# Altium footprint library SMD_components.PcbLib: 42 footprints (part 2 of 3)
Each footprint in its own frame and in the unit in brackets; x right, y up, seen from the top. Pads: shape width x height; smd on the part's side, far side on the other; paste and mask are expansions set on the pad; w line width, h text height; cw(c..) or ccw(c..) is an arc to the next point about the centre after c.
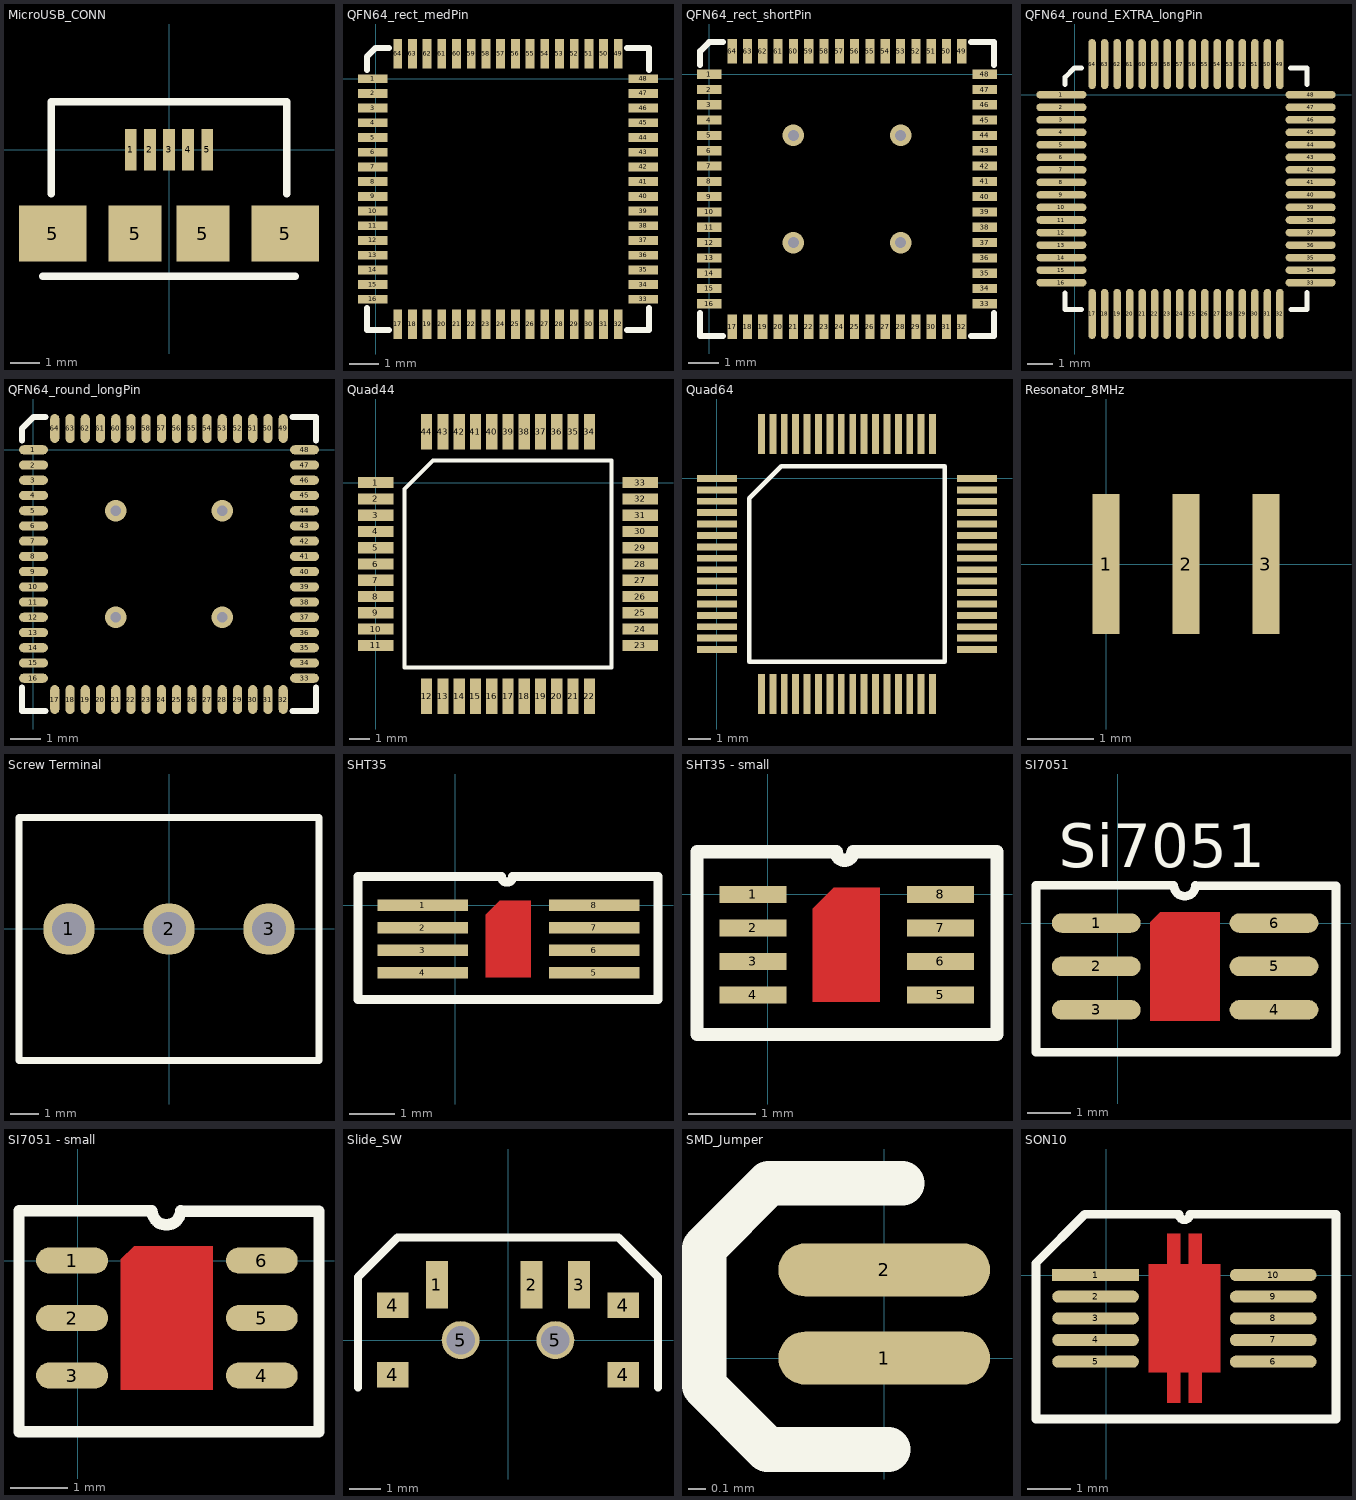
[diagram p1: the footprints below, top view; thin cyan lines are the x and y axes]

## MicroUSB_CONN [mm]
pads (9):
  rect 0.4x1.4 smd: 1(-1.3,0) 2(-0.65,0) 3(0,0) 4(0.65,0) 5(1.3,0)
  rect 2.3x1.9 smd: 5(-3.95,-2.85) 5(3.95,-2.85)
  rect 1.8x1.9 smd: 5(-1.15,-2.85) 5(1.15,-2.85)
Top Overlay:
  lines w0.254: -4.3,-4.3 4.3,-4.3 ; -4,-1.5 -4,1.63 4,1.63 4,-1.5

## QFN64_rect_medPin [mm]
pads (64):
  rect 1x0.3 smd: 1(-0.1,0) 2(-0.1,-0.5) 3(-0.1,-1) 4(-0.1,-1.5) 5(-0.1,-2) 6(-0.1,-2.5) 7(-0.1,-3) 8(-0.1,-3.5) 9(-0.1,-4) 10(-0.1,-4.5) 11(-0.1,-5) 12(-0.1,-5.5) 13(-0.1,-6) 14(-0.1,-6.5) 15(-0.1,-7) 16(-0.1,-7.5) 33(9.1,-7.5) 34(9.1,-7) 35(9.1,-6.5) 36(9.1,-6) 37(9.1,-5.5) 38(9.1,-5) 39(9.1,-4.5) 40(9.1,-4) 41(9.1,-3.5) 42(9.1,-3) 43(9.1,-2.5) 44(9.1,-2) 45(9.1,-1.5) 46(9.1,-1) 47(9.1,-0.5) 48(9.1,0)
  rect 0.3x1 smd: 17(0.75,-8.35) 18(1.25,-8.35) 19(1.75,-8.35) 20(2.25,-8.35) 21(2.75,-8.35) 22(3.25,-8.35) 23(3.75,-8.35) 24(4.25,-8.35) 25(4.75,-8.35) 26(5.25,-8.35) 27(5.75,-8.35) 28(6.25,-8.35) 29(6.75,-8.35) 30(7.25,-8.35) 31(7.75,-8.35) 32(8.25,-8.35) 49(8.25,0.85) 50(7.75,0.85) 51(7.25,0.85) 52(6.75,0.85) 53(6.25,0.85) 54(5.75,0.85) 55(5.25,0.85) 56(4.75,0.85) 57(4.25,0.85) 58(3.75,0.85) 59(3.25,0.85) 60(2.75,0.85) 61(2.25,0.85) 62(1.75,0.85) 63(1.25,0.85) 64(0.75,0.85)
Top Overlay:
  lines w0.2: -0.3,-7.8 -0.3,-8.55 0.45,-8.55 ; -0.3,0.3 -0.3,0.75 0,1.05 0.45,1.05 ; 8.55,-8.55 9.3,-8.55 9.3,-7.8 ; 8.55,1.05 9.3,1.05 9.3,0.3
Top Paste:
  rectangle: 1.25,-7.02 2.5,-5.745
  rectangle: 3.01,-7.02 4.26,-5.745
  rectangle: 4.75,-7.02 6,-5.745
  rectangle: 6.51,-7.02 7.76,-5.745
  rectangle: 6.51,-5.27 7.76,-3.995
  rectangle: 4.76,-5.27 6.01,-3.995
  rectangle: 3,-5.27 4.25,-3.995
  rectangle: 1.26,-5.27 2.51,-3.995
  rectangle: 6.51,-3.52 7.76,-2.245
  rectangle: 4.76,-3.52 6.01,-2.245
  rectangle: 3.01,-3.52 4.26,-2.245
  rectangle: 1.25,-3.52 2.5,-2.245
  rectangle: 6.51,-1.77 7.76,-0.495
  rectangle: 4.76,-1.77 6.01,-0.495
  rectangle: 3,-1.77 4.25,-0.495
  rectangle: 1.25,-1.765 2.5,-0.49
Top Solder:
  rectangle: 6.38,-7.13 7.88,-5.63
  rectangle: 6.38,-5.38 7.88,-3.88
  rectangle: 4.63,-7.13 6.13,-5.63
  rectangle: 4.63,-5.38 6.13,-3.88
  rectangle: 2.88,-5.38 4.38,-3.88
  rectangle: 2.88,-7.13 4.38,-5.63
  rectangle: 1.13,-7.13 2.63,-5.63
  rectangle: 1.13,-5.38 2.63,-3.88
  rectangle: 1.13,-3.63 2.63,-2.13
  rectangle: 2.88,-3.63 4.38,-2.13
  rectangle: 4.63,-3.63 6.13,-2.13
  rectangle: 6.38,-3.63 7.88,-2.13
  rectangle: 6.38,-1.88 7.88,-0.38
  rectangle: 4.63,-1.88 6.13,-0.38
  rectangle: 2.88,-1.88 4.38,-0.38
  rectangle: 1.13,-1.88 2.63,-0.38
3D body: height 2, standoff 0, extent -0.349,-8.585 9.352,1.065

## QFN64_rect_shortPin [mm]
pads (64):
  rect 0.8x0.3 smd: 1(0,0) 2(0,-0.5) 3(0,-1) 4(0,-1.5) 5(0,-2) 6(0,-2.5) 7(0,-3) 8(0,-3.5) 9(0,-4) 10(0,-4.5) 11(0,-5) 12(0,-5.5) 13(0,-6) 14(0,-6.5) 15(0,-7) 16(0,-7.5) 33(9,-7.5) 34(9,-7) 35(9,-6.5) 36(9,-6) 37(9,-5.5) 38(9,-5) 39(9,-4.5) 40(9,-4) 41(9,-3.5) 42(9,-3) 43(9,-2.5) 44(9,-2) 45(9,-1.5) 46(9,-1) 47(9,-0.5) 48(9,0)
  rect 0.3x0.8 smd: 17(0.75,-8.25) 18(1.25,-8.25) 19(1.75,-8.25) 20(2.25,-8.25) 21(2.75,-8.25) 22(3.25,-8.25) 23(3.75,-8.25) 24(4.25,-8.25) 25(4.75,-8.25) 26(5.25,-8.25) 27(5.75,-8.25) 28(6.25,-8.25) 29(6.75,-8.25) 30(7.25,-8.25) 31(7.75,-8.25) 32(8.25,-8.25) 49(8.25,0.75) 50(7.75,0.75) 51(7.25,0.75) 52(6.75,0.75) 53(6.25,0.75) 54(5.75,0.75) 55(5.25,0.75) 56(4.75,0.75) 57(4.25,0.75) 58(3.75,0.75) 59(3.25,0.75) 60(2.75,0.75) 61(2.25,0.75) 62(1.75,0.75) 63(1.25,0.75) 64(0.75,0.75)
via 2.75,-5.5 diameter 0.7 hole 0.35
via 6.25,-5.5 diameter 0.7 hole 0.35
via 6.25,-2 diameter 0.7 hole 0.35
via 2.75,-2 diameter 0.7 hole 0.35
Top Overlay:
  lines w0.2: -0.3,-7.8 -0.3,-8.55 0.45,-8.55 ; -0.3,0.3 -0.3,0.75 0,1.05 0.45,1.05 ; 8.55,-8.55 9.3,-8.55 9.3,-7.8 ; 8.55,1.05 9.3,1.05 9.3,0.3
Top Paste:
  rectangle: 1.25,-1.765 2.5,-0.49
  rectangle: 3,-1.77 4.25,-0.495
  rectangle: 4.76,-1.77 6.01,-0.495
  rectangle: 6.51,-1.77 7.76,-0.495
  rectangle: 1.25,-3.52 2.5,-2.245
  rectangle: 3.01,-3.52 4.26,-2.245
  rectangle: 4.76,-3.52 6.01,-2.245
  rectangle: 6.51,-3.52 7.76,-2.245
  rectangle: 1.26,-5.27 2.51,-3.995
  rectangle: 3,-5.27 4.25,-3.995
  rectangle: 4.76,-5.27 6.01,-3.995
  rectangle: 6.51,-5.27 7.76,-3.995
  rectangle: 6.51,-7.02 7.76,-5.745
  rectangle: 4.75,-7.02 6,-5.745
  rectangle: 3.01,-7.02 4.26,-5.745
  rectangle: 1.25,-7.02 2.5,-5.745
Top Solder:
  rectangle: 1.13,-1.88 2.63,-0.38
  rectangle: 2.88,-1.88 4.38,-0.38
  rectangle: 4.63,-1.88 6.13,-0.38
  rectangle: 6.38,-1.88 7.88,-0.38
  rectangle: 6.38,-3.63 7.88,-2.13
  rectangle: 4.63,-3.63 6.13,-2.13
  rectangle: 2.88,-3.63 4.38,-2.13
  rectangle: 1.13,-3.63 2.63,-2.13
  rectangle: 1.13,-5.38 2.63,-3.88
  rectangle: 1.13,-7.13 2.63,-5.63
  rectangle: 2.88,-7.13 4.38,-5.63
  rectangle: 2.88,-5.38 4.38,-3.88
  rectangle: 4.63,-5.38 6.13,-3.88
  rectangle: 4.63,-7.13 6.13,-5.63
  rectangle: 6.38,-5.38 7.88,-3.88
  rectangle: 6.38,-7.13 7.88,-5.63
3D body: height 2, standoff 0, extent -0.384,-8.581 9.317,1.069

## QFN64_round_EXTRA_longPin [mm]
pads (64):
  oval 2x0.3 smd: 1(-0.525,0) 2(-0.525,-0.5) 3(-0.525,-1) 4(-0.525,-1.5) 5(-0.525,-2) 6(-0.525,-2.5) 7(-0.525,-3) 8(-0.525,-3.5) 9(-0.525,-4) 10(-0.525,-4.5) 11(-0.525,-5) 12(-0.525,-5.5) 13(-0.525,-6) 14(-0.525,-6.5) 15(-0.525,-7) 16(-0.525,-7.5) 33(9.425,-7.5) 34(9.425,-7) 35(9.425,-6.5) 36(9.425,-6) 37(9.425,-5.5) 38(9.425,-5) 39(9.425,-4.5) 40(9.425,-4) 41(9.425,-3.5) 42(9.425,-3) 43(9.425,-2.5) 44(9.425,-2) 45(9.425,-1.5) 46(9.425,-1) 47(9.425,-0.5) 48(9.425,0)
  oval 0.3x2 smd: 17(0.7,-8.75) 18(1.2,-8.75) 19(1.7,-8.75) 20(2.2,-8.75) 21(2.7,-8.75) 22(3.2,-8.75) 23(3.7,-8.75) 24(4.2,-8.75) 25(4.7,-8.75) 26(5.2,-8.75) 27(5.7,-8.75) 28(6.2,-8.75) 29(6.7,-8.75) 30(7.2,-8.75) 31(7.7,-8.75) 32(8.2,-8.75) 49(8.2,1.225) 50(7.7,1.225) 51(7.2,1.225) 52(6.7,1.225) 53(6.2,1.225) 54(5.7,1.225) 55(5.2,1.225) 56(4.7,1.225) 57(4.2,1.225) 58(3.7,1.225) 59(3.2,1.225) 60(2.7,1.225) 61(2.2,1.225) 62(1.7,1.225) 63(1.2,1.225) 64(0.7,1.225)
Top Overlay:
  lines w0.2: -0.375,-7.906 -0.375,-8.575 0.284,-8.575 ; -0.375,0.403 -0.375,0.7 0,1.075 0.288,1.075 ; 8.627,1.075 9.275,1.075 9.275,0.407 ; 8.638,-8.575 9.275,-8.575 9.275,-7.885
Top Paste:
  rectangle: 1.2,-1.76 2.45,-0.485
  rectangle: 2.95,-1.765 4.2,-0.49
  rectangle: 4.71,-1.765 5.96,-0.49
  rectangle: 6.46,-1.765 7.71,-0.49
  rectangle: 1.2,-3.515 2.45,-2.24
  rectangle: 2.96,-3.515 4.21,-2.24
  rectangle: 4.71,-3.515 5.96,-2.24
  rectangle: 6.46,-3.515 7.71,-2.24
  rectangle: 1.21,-5.265 2.46,-3.99
  rectangle: 2.95,-5.265 4.2,-3.99
  rectangle: 4.71,-5.265 5.96,-3.99
  rectangle: 6.46,-5.265 7.71,-3.99
  rectangle: 6.46,-7.015 7.71,-5.74
  rectangle: 4.7,-7.015 5.95,-5.74
  rectangle: 2.96,-7.015 4.21,-5.74
  rectangle: 1.2,-7.015 2.45,-5.74
Top Solder:
  rectangle: 1.08,-1.88 2.58,-0.38
  rectangle: 2.83,-1.88 4.33,-0.38
  rectangle: 4.58,-1.88 6.08,-0.38
  rectangle: 6.33,-1.88 7.83,-0.38
  rectangle: 6.33,-3.63 7.83,-2.13
  rectangle: 4.58,-3.63 6.08,-2.13
  rectangle: 2.83,-3.63 4.33,-2.13
  rectangle: 1.08,-3.63 2.58,-2.13
  rectangle: 1.08,-5.38 2.58,-3.88
  rectangle: 2.83,-5.38 4.33,-3.88
  rectangle: 4.58,-5.38 6.08,-3.88
  rectangle: 6.33,-5.38 7.83,-3.88
  rectangle: 6.33,-7.13 7.83,-5.63
  rectangle: 4.58,-7.13 6.08,-5.63
  rectangle: 2.83,-7.13 4.33,-5.63
  rectangle: 1.08,-7.13 2.58,-5.63
3D body: height 2, standoff 0, extent -0.426,-8.575 9.275,1.075

## QFN64_round_longPin [mm]
pads (64):
  oval 0.95x0.3 smd: 1(0,0) 2(0,-0.5) 3(0,-1) 4(0,-1.5) 5(0,-2) 6(0,-2.5) 7(0,-3) 8(0,-3.5) 9(0,-4) 10(0,-4.5) 11(0,-5) 12(0,-5.5) 13(0,-6) 14(0,-6.5) 15(0,-7) 16(0,-7.5) 33(8.9,-7.5) 34(8.9,-7) 35(8.9,-6.5) 36(8.9,-6) 37(8.9,-5.5) 38(8.9,-5) 39(8.9,-4.5) 40(8.9,-4) 41(8.9,-3.5) 42(8.9,-3) 43(8.9,-2.5) 44(8.9,-2) 45(8.9,-1.5) 46(8.9,-1) 47(8.9,-0.5) 48(8.9,0)
  oval 0.3x0.95 smd: 17(0.7,-8.2) 18(1.2,-8.2) 19(1.7,-8.2) 20(2.2,-8.2) 21(2.7,-8.2) 22(3.2,-8.2) 23(3.7,-8.2) 24(4.2,-8.2) 25(4.7,-8.2) 26(5.2,-8.2) 27(5.7,-8.2) 28(6.2,-8.2) 29(6.7,-8.2) 30(7.2,-8.2) 31(7.7,-8.2) 32(8.2,-8.2) 49(8.2,0.7) 50(7.7,0.7) 51(7.2,0.7) 52(6.7,0.7) 53(6.2,0.7) 54(5.7,0.7) 55(5.2,0.7) 56(4.7,0.7) 57(4.2,0.7) 58(3.7,0.7) 59(3.2,0.7) 60(2.7,0.7) 61(2.2,0.7) 62(1.7,0.7) 63(1.2,0.7) 64(0.7,0.7)
via 2.7,-2 diameter 0.7 hole 0.35
via 6.2,-2 diameter 0.7 hole 0.35
via 6.2,-5.5 diameter 0.7 hole 0.35
via 2.7,-5.5 diameter 0.7 hole 0.35
Top Overlay:
  lines w0.2: -0.375,-7.8 -0.375,-8.575 0.4,-8.575 ; -0.375,0.3 -0.375,0.7 0,1.075 0.4,1.075 ; 8.5,-8.575 9.275,-8.575 9.275,-7.8 ; 8.5,1.075 9.275,1.075 9.275,0.3
Top Paste:
  rectangle: 1.2,-1.765 2.45,-0.49
  rectangle: 2.95,-1.77 4.2,-0.495
  rectangle: 4.71,-1.77 5.96,-0.495
  rectangle: 6.46,-1.77 7.71,-0.495
  rectangle: 1.2,-3.52 2.45,-2.245
  rectangle: 2.96,-3.52 4.21,-2.245
  rectangle: 4.71,-3.52 5.96,-2.245
  rectangle: 6.46,-3.52 7.71,-2.245
  rectangle: 1.21,-5.27 2.46,-3.995
  rectangle: 2.95,-5.27 4.2,-3.995
  rectangle: 4.71,-5.27 5.96,-3.995
  rectangle: 6.46,-5.27 7.71,-3.995
  rectangle: 6.46,-7.02 7.71,-5.745
  rectangle: 4.7,-7.02 5.95,-5.745
  rectangle: 2.96,-7.02 4.21,-5.745
  rectangle: 1.2,-7.02 2.45,-5.745
Top Solder:
  rectangle: 1.08,-7.13 2.58,-5.63
  rectangle: 2.83,-7.13 4.33,-5.63
  rectangle: 4.58,-7.13 6.08,-5.63
  rectangle: 6.33,-7.13 7.83,-5.63
  rectangle: 6.33,-5.38 7.83,-3.88
  rectangle: 4.58,-5.38 6.08,-3.88
  rectangle: 2.83,-5.38 4.33,-3.88
  rectangle: 1.08,-5.38 2.58,-3.88
  rectangle: 1.08,-3.63 2.58,-2.13
  rectangle: 2.83,-3.63 4.33,-2.13
  rectangle: 4.58,-3.63 6.08,-2.13
  rectangle: 6.33,-3.63 7.83,-2.13
  rectangle: 6.33,-1.88 7.83,-0.38
  rectangle: 4.58,-1.88 6.08,-0.38
  rectangle: 2.83,-1.88 4.33,-0.38
  rectangle: 1.08,-1.88 2.58,-0.38

## Quad44 [mm]
pads (44):
  rect 1.75x0.55 smd: 1(0,0) 2(0,-0.8) 3(0,-1.6) 4(0,-2.4) 5(0,-3.2) 6(0,-4) 7(0,-4.8) 8(0,-5.6) 9(0,-6.4) 10(0,-7.2) 11(0,-8) 23(13,-8) 24(13,-7.2) 25(13,-6.4) 26(13,-5.6) 27(13,-4.8) 28(13,-4) 29(13,-3.2) 30(13,-2.4) 31(13,-1.6) 32(13,-0.8) 33(13,0)
  rect 0.55x1.75 smd: 12(2.5,-10.5) 13(3.3,-10.5) 14(4.1,-10.5) 15(4.9,-10.5) 16(5.7,-10.5) 17(6.5,-10.5) 18(7.3,-10.5) 19(8.1,-10.5) 20(8.9,-10.5) 21(9.7,-10.5) 22(10.5,-10.5) 34(10.5,2.5) 35(9.7,2.5) 36(8.9,2.5) 37(8.1,2.5) 38(7.3,2.5) 39(6.5,2.5) 40(5.7,2.5) 41(4.9,2.5) 42(4.1,2.5) 43(3.3,2.5) 44(2.5,2.5)
Top Overlay:
  lines w0.2: 1.41,-9.09 1.41,-0.32 2.82,1.09 11.59,1.09 11.59,-9.09 1.41,-9.09
3D body: height 1.2, standoff 0, extent 1.27,-9.271 11.684,1.27

## Quad64 [mm]
pads (64):
  rect 1.75x0.3 smd: 1(0,0) 2(0,-0.5) 3(0,-1) 4(0,-1.5) 5(0,-2) 6(0,-2.5) 7(0,-3) 8(0,-3.5) 9(0,-4) 10(0,-4.5) 11(0,-5) 12(0,-5.5) 13(0,-6) 14(0,-6.5) 15(0,-7) 16(0,-7.5) 33(11.4,-7.5) 34(11.4,-7) 35(11.4,-6.5) 36(11.4,-6) 37(11.4,-5.5) 38(11.4,-5) 39(11.4,-4.5) 40(11.4,-4) 41(11.4,-3.5) 42(11.4,-3) 43(11.4,-2.5) 44(11.4,-2) 45(11.4,-1.5) 46(11.4,-1) 47(11.4,-0.5) 48(11.4,0)
  rect 0.3x1.75 smd: 17(1.95,-9.45) 18(2.45,-9.45) 19(2.95,-9.45) 20(3.45,-9.45) 21(3.95,-9.45) 22(4.45,-9.45) 23(4.95,-9.45) 24(5.45,-9.45) 25(5.95,-9.45) 26(6.45,-9.45) 27(6.95,-9.45) 28(7.45,-9.45) 29(7.95,-9.45) 30(8.45,-9.45) 31(8.95,-9.45) 32(9.45,-9.45) 49(9.45,1.95) 50(8.95,1.95) 51(8.45,1.95) 52(7.95,1.95) 53(7.45,1.95) 54(6.95,1.95) 55(6.45,1.95) 56(5.95,1.95) 57(5.45,1.95) 58(4.95,1.95) 59(4.45,1.95) 60(3.95,1.95) 61(3.45,1.95) 62(2.95,1.95) 63(2.45,1.95) 64(1.95,1.95)
Top Overlay:
  lines w0.2: 1.41,-8.04 9.99,-8.04 9.99,0.54 2.82,0.54 1.41,-0.87 1.41,-8.04
3D body: height 1.2, standoff 0, extent 1.27,-8.255 10.16,0.635

## Resonator_8MHz [mm] "CSTCE8M00G55Z-R0"
height 0.7
pads (3):
  rect 0.4x2.1 smd: 1(0,0) 2(1.2,0) 3(2.4,0)
3D body: height 1.2, standoff 0, extent -0.328,-0.953 2.838,0.941

## Screw Terminal [mm]
pads (3):
  round 1.8 hole 1.2: 1(-3.5,0) 2(0,0) 3(3.5,0)
Top Overlay:
  lines w0.254: -5.25,-4.6 -5.25,3.9 5.25,3.9 5.25,-4.6 -5.25,-4.6
3D body: height 10, standoff 0, extent -5.25,-4.6 5.25,3.9

## SHT35 [mm]
pads (8):
  rect 2x0.25 smd mask+0.15: 1(-0.725,0) 2(-0.725,-0.5) 3(-0.725,-1) 4(-0.725,-1.5) 5(3.075,-1.5) 6(3.075,-1) 7(3.075,-0.5) 8(3.075,0)
Top Layer:
  region: 0.67,-1.6 1.67,-1.6 1.67,0.1 0.98,0.1 0.67,-0.21
Top Overlay:
  lines w0.2: -2.16,-2.09 -2.16,0.635 1.02,0.635 ccw(c1.145,0.635) 1.27,0.635 4.49,0.635 4.49,-2.09 -2.16,-2.09
Top Paste:
  region: 1,0.05 0.71,-0.24 0.71,-1.56 1.63,-1.56 1.63,0.05
Top Solder:
  region: 1.78,-1.74 0.54,-1.74 0.54,-0.12 0.92,0.26 1.78,0.26
3D body: height 1, standoff 0, extent -0.433,-1.87 2.616,0.399

## SHT35 - small [mm]
pads (8):
  rect 1x0.25 smd mask+0.15: 1(-0.225,0) 2(-0.225,-0.5) 3(-0.225,-1) 4(-0.225,-1.5) 5(2.575,-1.5) 6(2.575,-1) 7(2.575,-0.5) 8(2.575,0)
Top Layer:
  region: 0.67,-1.6 1.67,-1.6 1.67,0.1 0.98,0.1 0.67,-0.21
Top Overlay:
  lines w0.2: -1.057,-2.09 3.419,-2.09 3.419,0.635 1.27,0.635 cw(c1.145,0.635) 1.02,0.635 -1.057,0.635 -1.057,-2.09
Top Paste:
  region: 1,0.05 0.71,-0.24 0.71,-1.56 1.63,-1.56 1.63,0.05
Top Solder:
  region: 1.78,-1.74 0.54,-1.74 0.54,-0.12 0.92,0.26 1.78,0.26
3D body: height 1, standoff 0, extent -0.433,-1.87 2.616,0.399

## SI7051 [mm]
pads (6):
  oval 2.05x0.45 smd: 1(-0.5,0) 2(-0.5,-1) 3(-0.5,-2) 4(3.6,-2) 5(3.6,-1) 6(3.6,0)
Top Layer:
  region: 0.98,0.25 2.35,0.25 2.35,-2.25 0.75,-2.25 0.75,0.02
Top Overlay:
  lines w0.2: 1.79,0.86 5.03,0.86 5.03,-2.98 -1.89,-2.98 -1.89,0.87 1.29,0.87 ccw(c1.54,0.87) 1.79,0.87
  text "Si7051" at -1.36,1.29 h1
Top Paste:
  rectangle: 1.05,-0.85 2.05,0.15
  rectangle: 1.05,-2.15 2.05,-1.15
Top Solder:
  rectangle: 0.65,-2.35 2.45,0.35
3D body: height 1, standoff 0, extent -0.328,-2.701 3.437,0.669

## SI7051 - small [mm]
pads (6):
  oval 1.25x0.45 smd: 1(-0.1,0) 2(-0.1,-1) 3(-0.1,-2) 4(3.2,-2) 5(3.2,-1) 6(3.2,0)
Top Layer:
  region: 0.98,0.25 2.35,0.25 2.35,-2.25 0.75,-2.25 0.75,0.02
Top Overlay:
  lines w0.2: 1.79,0.86 4.195,0.86 4.195,-2.98 -1.023,-2.98 -1.023,0.87 1.29,0.87 ccw(c1.54,0.87) 1.79,0.87
Top Paste:
  rectangle: 1.05,-2.15 2.05,-1.15
  rectangle: 1.05,-0.85 2.05,0.15
Top Solder:
  rectangle: 0.65,-2.35 2.45,0.35
3D body: height 1, standoff 0, extent -0.328,-2.701 3.437,0.669

## Slide_SW [mm] "PCM12SMTR"
pads (9):
  rect 0.7x1.5 smd: 1(-2.25,1.75) 2(0.75,1.75) 3(2.25,1.75)
  rect 1x0.8 smd: 4(-3.65,-1.1) 4(-3.65,1.1) 4(3.65,-1.1) 4(3.65,1.1)
  round 1.2 hole 0.9: 5(-1.5,0) 5(1.5,0)
Top Overlay:
  lines w0.254: -4.75,-1.5 -4.75,2 -3.5,3.25 3.5,3.25 4.75,2 4.75,-1.5
3D body: height 3, standoff 0, extent -3.141,-1.654 3.106,1.583

## SMD_Jumper [mm]
pads (2):
  oval 1.2x0.3 smd: 1(0,0) 2(0,0.5)
Top Overlay:
  lines w0.254: 0.023,-0.517 -0.662,-0.517 -1.022,-0.157 -1.022,0.623 -0.654,0.991 0.1,0.991

## SON10 [mm]
pads (10):
  rect 2x0.28 smd: 1(-0.25,0)
  oval 2x0.28 smd: 2(-0.25,-0.5) 3(-0.25,-1) 4(-0.25,-1.5) 5(-0.25,-2) 6(3.85,-2) 7(3.85,-1.5) 8(3.85,-1) 9(3.85,-0.5) 10(3.85,0)
Top Layer:
  region: 1.4,0.25 1.4,0.95 1.7,0.95 1.7,0.25 1.9,0.25 1.9,0.95 2.2,0.95 2.2,0.25 2.625,0.25 2.625,-2.25 2.2,-2.25 2.2,-2.95 1.9,-2.95 1.9,-2.25 1.7,-2.25 1.7,-2.95 1.4,-2.95 1.4,-2.25 0.975,-2.25 0.975,0.25
Top Overlay:
  lines w0.2: -1.625,-3.325 5.3,-3.325 5.3,1.4 1.925,1.4 cw(c1.8,1.4) 1.675,1.4 -0.5,1.4 -1.625,0.275 -1.625,-3.325
Top Paste:
  rectangle: 1.92,0.38 2.18,0.88
  rectangle: 1.42,-2.88 1.68,-2.38
  rectangle: 1.92,-2.88 2.18,-2.38
  rectangle: 1.42,0.38 1.68,0.88
  rectangle: 1.9,-2.16 2.59,-1.11
  rectangle: 1.01,-2.16 1.69,-1.11
  rectangle: 1.91,-0.89 2.59,0.16
  rectangle: 1.01,-0.89 1.69,0.16
3D body: height 2, standoff 0, extent 0.005,-2.951 3.647,0.963